# Altium footprint library bch-lib.PcbLib: 86 footprints (part 3 of 6)
Each footprint in its own frame and in the unit in brackets; x right, y up, seen from the top. Pads: shape width x height; smd on the part's side, far side on the other; paste and mask are expansions set on the pad; w line width, h text height; cw(c..) or ccw(c..) is an arc to the next point about the centre after c.
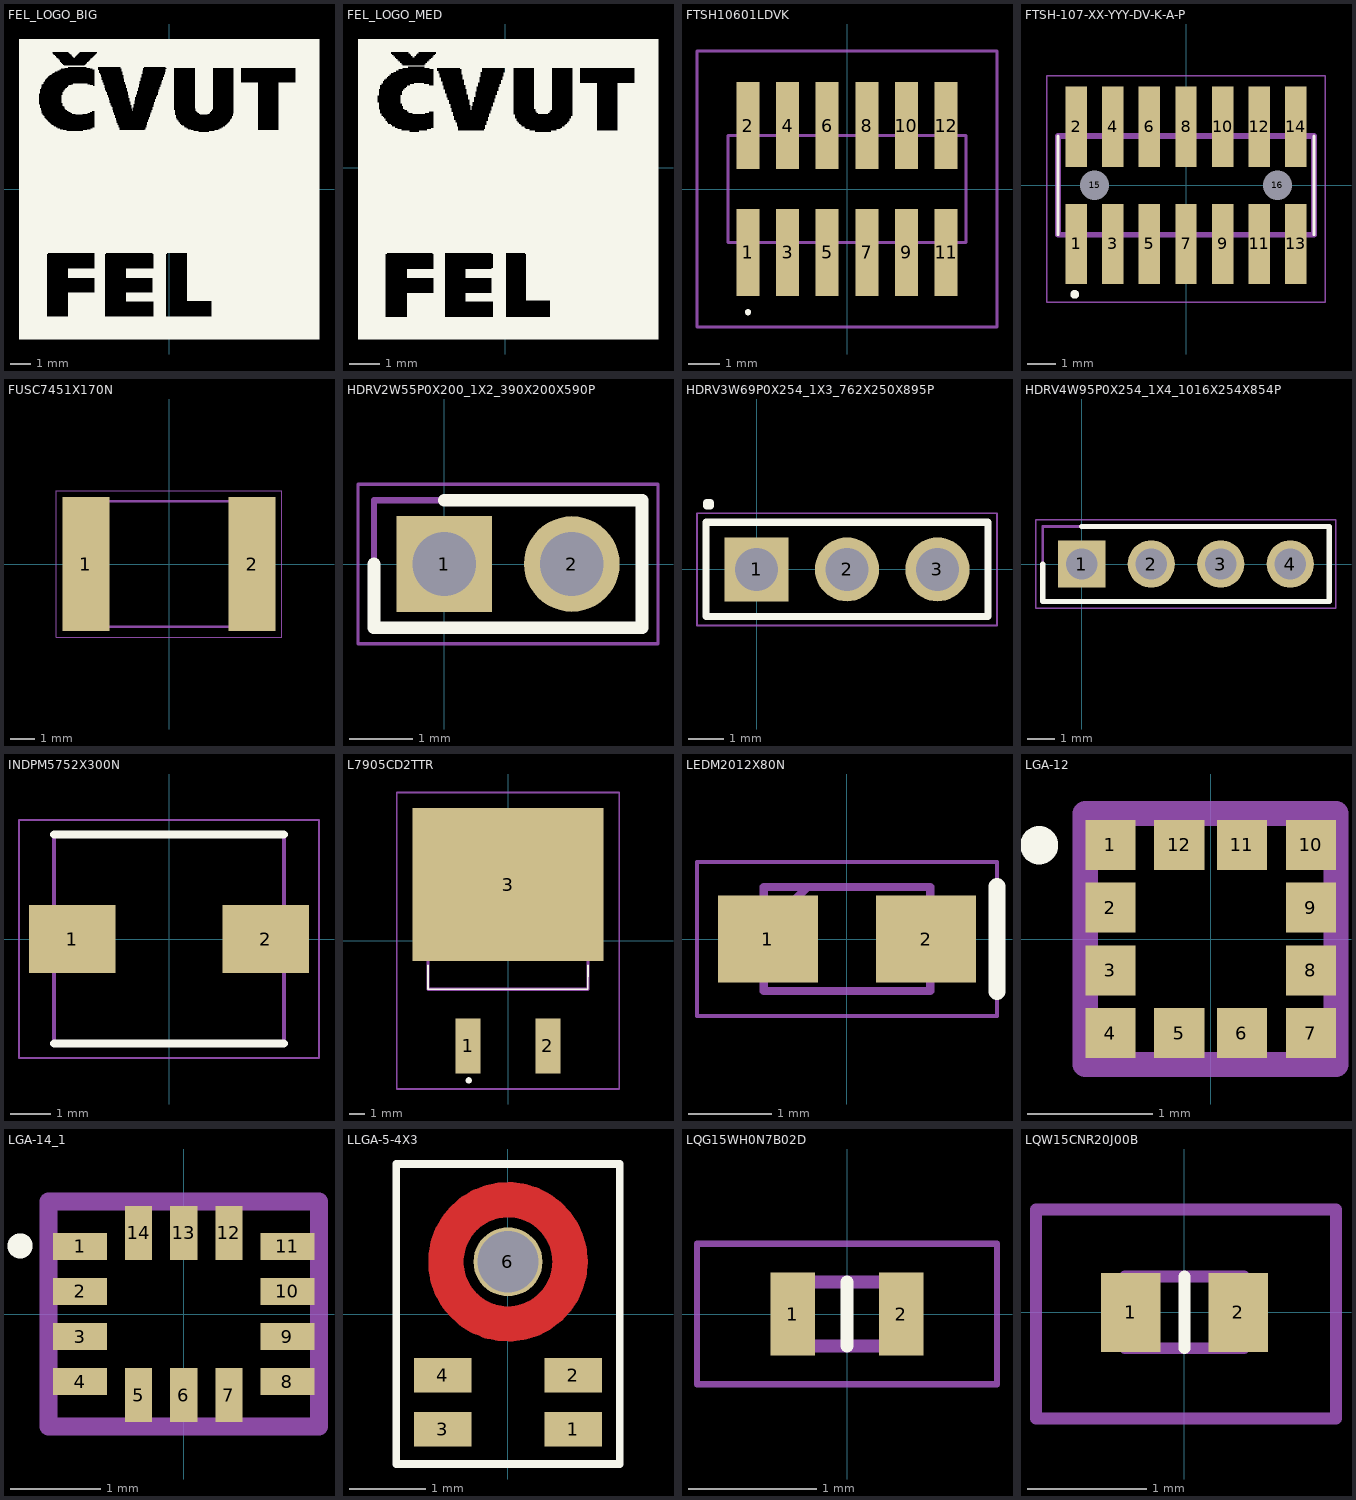
[diagram p2: the footprints below, top view; thin cyan lines are the x and y axes]

## FEL_LOGO_BIG [mm]
Top Overlay:
  region: 6 vertices and 8 holes, not listed, extent -7.5,-7.5 7.5,7.5

## FEL_LOGO_MED [mm]
Top Overlay:
  region: 4 vertices and 8 holes, not listed, extent -4.81,-5.605 5.006,4.211

## FTSH10601LDVK [mm]
pads (12):
  rect 0.74x2.79 smd: 1(-3.175,-2.035) 2(-3.175,2.035) 3(-1.905,-2.035) 4(-1.905,2.035) 5(-0.635,-2.035) 6(-0.635,2.035) 7(0.635,-2.035) 8(0.635,2.035) 9(1.905,-2.035) 10(1.905,2.035) 11(3.175,-2.035) 12(3.175,2.035)
Top Overlay:
  lines w0.1: -3.175,-4 cw(c-3.175,-3.95) -3.175,-3.9 cw(c-3.175,-3.95) -3.175,-4
Mechanical 13:
  lines w0.1: -3.81,-1.715 3.81,-1.715 3.81,1.715 -3.81,1.715 -3.81,-1.715
Mechanical 15:
  lines w0.1: -4.81,-4.43 4.81,-4.43 4.81,4.43 -4.81,4.43 -4.81,-4.43
3D body "FTSH-106-01-L-DV-K.stp": height 6.2, standoff 0, extent -3.81,-3.356 3.81,3.356

## FTSH-107-XX-YYY-DV-K-A-P [mm]
pads (16):
  rect 0.74x2.79 smd: 1(-3.81,-2.035) 2(-3.81,2.035) 3(-2.54,-2.035) 4(-2.54,2.035) 5(-1.27,-2.035) 6(-1.27,2.035) 7(0,-2.035) 8(0,2.035) 9(1.27,-2.035) 10(1.27,2.035) 11(2.54,-2.035) 12(2.54,2.035) 13(3.81,-2.035) 14(3.81,2.035)
  round 0.51 hole 1.02 unplated: 15(-3.175,0) 16(3.175,0)
Top Overlay:
  circle w0.2: c-3.86,-3.785 r0.05
  lines w0.1: -4.445,-1.715 -4.445,1.715 ; 4.445,-1.715 4.445,1.715
Mechanical 13:
  lines w0.2: -4.445,-1.715 4.445,-1.715 4.445,1.715 -4.445,1.715 -4.445,-1.715
Mechanical 15:
  lines w0.05: -4.826,-4.064 4.826,-4.064 4.826,3.81 -4.826,3.81 -4.826,-4.064
3D body "FTSH-107-01-L-DV-K-A-P.stp": height 6.8, standoff -1.05, extent -4.445,-4.575 4.445,2.791

## FUSC7451X170N [mm]
pads (2):
  rect 1.92x5.45 smd: 1(-3.385,0) 2(3.385,0)
Mechanical 13:
  lines w0.1: -3.678,-2.56 -3.678,2.56 3.678,2.56 3.678,-2.56 -3.678,-2.56
Mechanical 15:
  lines w0.05: -4.595,-2.975 -4.595,2.975 4.595,2.975 4.595,-2.975 -4.595,-2.975
3D body "0ZCF0100AF2A.stp": height 1.7, standoff 0, extent -3.678,-2.56 3.678,2.56

## HDRV2W55P0X200_1X2_390X200X590P [mm]
pads (2):
  rect 1.5x1.5 hole 1: 1(0,0)
  round 1.5 hole 1: 2(2,0)
Top Overlay:
  lines w0.2: -1.102,0 -1.102,-1 3.101,-1 3.101,1 0,1
Mechanical 13:
  lines w0.1: -1.102,-1 3.101,-1 3.101,1 -1.102,1 -1.102,-1
Mechanical 15:
  lines w0.05: -1.352,-1.25 3.351,-1.25 3.351,1.25 -1.352,1.25 -1.352,-1.25
3D body "951102-8622-AR.stp": height 5.9, standoff -3, extent -0.951,-1 2.951,1

## HDRV3W69P0X254_1X3_762X250X895P [mm]
pads (3):
  rect 1.8x1.8 hole 1.2: 1(0,0)
  round 1.8 hole 1.2: 2(2.54,0) 3(5.08,0)
Top Overlay:
  lines w0.2: -1.42,-1.325 6.5,-1.325 6.5,1.325 0,1.325 -1.42,1.325 -1.42,0 -1.42,-1.325 ; -1.397,1.778 -1.397,1.878 -1.297,1.878 -1.297,1.778 -1.397,1.778
Mechanical 13:
  lines w0.1: -1.42,-1.325 6.5,-1.325 6.5,1.325 -1.42,1.325 -1.42,-1.325
Mechanical 15:
  lines w0.05: -1.67,-1.575 6.75,-1.575 6.75,1.575 -1.67,1.575 -1.67,-1.575
3D body "G800W305018EU.stp": height 8.95, standoff -3.2, extent -1.27,-1.25 6.35,1.25

## HDRV4W95P0X254_1X4_1016X254X854P [mm]
pads (4):
  rect 1.725x1.725 hole 1.15: 1(0,0)
  round 1.725 hole 1.15: 2(2.54,0) 3(5.08,0) 4(7.62,0)
Top Overlay:
  lines w0.2: -1.42,0 -1.42,-1.37 9.04,-1.37 9.04,1.37 0,1.37
Mechanical 13:
  lines w0.1: -1.42,-1.37 -1.42,1.37 9.04,1.37 9.04,-1.37 -1.42,-1.37
Mechanical 15:
  lines w0.05: -1.67,-1.62 -1.67,1.62 9.29,1.62 9.29,-1.62 -1.67,-1.62
3D body "61300411121.stp": height 8.54, standoff -3.2, extent -1.27,-1.27 8.89,1.27

## INDPM5752X300N [mm]
pads (2):
  rect 2.15x1.7 smd: 1(-2.4,0) 2(2.4,0)
Top Overlay:
  lines w0.2: -2.85,-2.6 2.85,-2.6 ; -2.85,2.6 2.85,2.6
Mechanical 13:
  lines w0.1: -2.85,-2.6 2.85,-2.6 2.85,2.6 -2.85,2.6 -2.85,-2.6
Mechanical 15:
  lines w0.05: -3.725,-2.95 3.725,-2.95 3.725,2.95 -3.725,2.95 -3.725,-2.95
3D body "SRP5030TA-2R2M.stp": height 2.81, standoff 0, extent -2.85,-2.6 2.85,2.6

## L7905CD2TTR [mm]
pads (3):
  rect 1.6x3.5 smd: 1(-2.54,-6.7) 2(2.54,-6.7)
  rect 12.2x9.75 smd: 3(0,3.575)
Top Overlay:
  lines w0.1: -5.1,-1.562 -5.1,-3.092 5.08,-3.092 5.1,-1.562
  lines w0.2: -2.6,-8.9 ccw(c-2.5,-8.9) -2.4,-8.9 ccw(c-2.5,-8.9) -2.6,-8.9
Mechanical 13:
  lines w0.2: -5.1,-3.092 5.1,-3.092 5.1,6.058 -5.1,6.058 -5.1,-3.092
Mechanical 15:
  lines w0.1: -7.1,-9.45 7.1,-9.45 7.1,9.45 -7.1,9.45 -7.1,-9.45
3D body "L7912CD2T-TR.stp": height 5.01, standoff 0, extent -5.08,-7.627 5.08,7.637

## LEDM2012X80N [mm]
pads (2):
  rect 1.2x1.05 smd: 1(-0.95,0) 2(0.95,0)
Top Overlay:
  lines w0.2: 1.801,-0.635 1.801,0.635
Mechanical 13:
  lines w0.1: -1,0.1 -0.475,0.625 ; -1,-0.625 -1,0.625 1,0.625 1,-0.625 -1,-0.625
Mechanical 15:
  lines w0.05: -1.8,-0.925 -1.8,0.925 1.8,0.925 1.8,-0.925 -1.8,-0.925
3D body "150080GS75000.stp": height 0.7, standoff 0, extent -1,-0.625 1,0.625

## LGA-12 [mm]
pads (12):
  rect 0.4x0.4 smd: 1(-0.8,0.75) 2(-0.8,0.25) 3(-0.8,-0.25) 4(-0.8,-0.75) 5(-0.25,-0.75) 6(0.25,-0.75) 7(0.8,-0.75) 8(0.8,-0.25) 9(0.8,0.25) 10(0.8,0.75) 11(0.25,0.75) 12(-0.25,0.75)
Top Overlay:
  circle w0.254: c-1.368,0.748 r0.025
Mechanical 13:
  lines w0.2: -1,-1 -1,1 1,1 1,-1 -1,-1
3D body "LIS2MDLTR.stp": height 1, standoff 0, extent -1,-1 1,1

## LGA-14_1 [mm]
pads (14):
  rect 0.6x0.3 smd: 1(-1.15,0.75) 2(-1.15,0.25) 3(-1.15,-0.25) 4(-1.15,-0.75) 8(1.15,-0.75) 9(1.15,-0.25) 10(1.15,0.25) 11(1.15,0.75)
  rect 0.3x0.6 smd: 5(-0.5,-0.9) 6(0,-0.9) 7(0.5,-0.9) 12(0.5,0.9) 13(0,0.9) 14(-0.5,0.9)
Top Overlay:
  circle w0.254: c-1.815,0.756 r0.012
Mechanical 13:
  lines w0.2: -1.5,-1.25 1.5,-1.25 1.5,1.25 -1.5,1.25 -1.5,-1.25
3D body "ISM330DLCTR.stp": height 0.86, standoff 0, extent -1.5,-1.25 1.5,1.25

## LLGA-5-4X3 [mm]
pads (6):
  rect 0.75x0.45 smd: 1(0.85,-1.5) 2(0.85,-0.8) 3(-0.85,-1.5) 4(-0.85,-0.8)
  round 0 smd: 5(0,0.68)
  round 0.9 hole 0.8: 6(0,0.68)
Top Layer:
  circle w0.46: c0,0.68 r0.81
Top Overlay:
  lines w0.1: -1.455,-1.955 1.455,-1.955 1.455,1.955 -1.455,1.955 -1.455,-1.955
Mechanical 13:
  lines w0.01: -1.455,-1.955 1.455,-1.955 1.455,1.955 -1.455,1.955 -1.455,-1.955
3D body "IM67D130AXTSA2.stp": height 1.3, standoff 0, extent -1.5,-2 1.5,2

## LQG15WH0N7B02D [mm]
pads (2):
  rect 0.35x0.65 smd: 1(-0.425,0) 2(0.425,0)
Top Overlay:
  lines w0.1: 0,-0.25 0,0.25
Mechanical 13:
  lines w0.1: -0.5,-0.25 -0.5,0.25 0.5,0.25 0.5,-0.25 -0.5,-0.25
Mechanical 15:
  lines w0.05: -1.175,-0.55 -1.175,0.55 1.175,0.55 1.175,-0.55 -1.175,-0.55
3D body "LQG15HS27NJ02D.stp": height 0.55, standoff 0, extent -0.5,-0.25 0.5,0.25

## LQW15CNR20J00B [mm]
pads (2):
  rect 0.5x0.66 smd: 1(-0.45,0) 2(0.45,0)
Top Overlay:
  lines w0.1: 0,-0.3 0,0.3
Mechanical 13:
  lines w0.1: -0.5,-0.3 -0.5,0.3 0.5,0.3 0.5,-0.3 -0.5,-0.3
Mechanical 15:
  lines w0.1: -1.245,-0.889 1.27,-0.889 1.27,0.864 -1.245,0.864 -1.245,-0.889
3D body "LQG15WZ6N8H02D.stp": height 0.6, standoff 0, extent -0.5,-0.25 0.5,0.25